# EAGLE library part AVR1-ATTINY12 (library Atmel_AVR8)
MICROCONTROLLER 1 Kbytes FLASH 64 bytes EEPROM
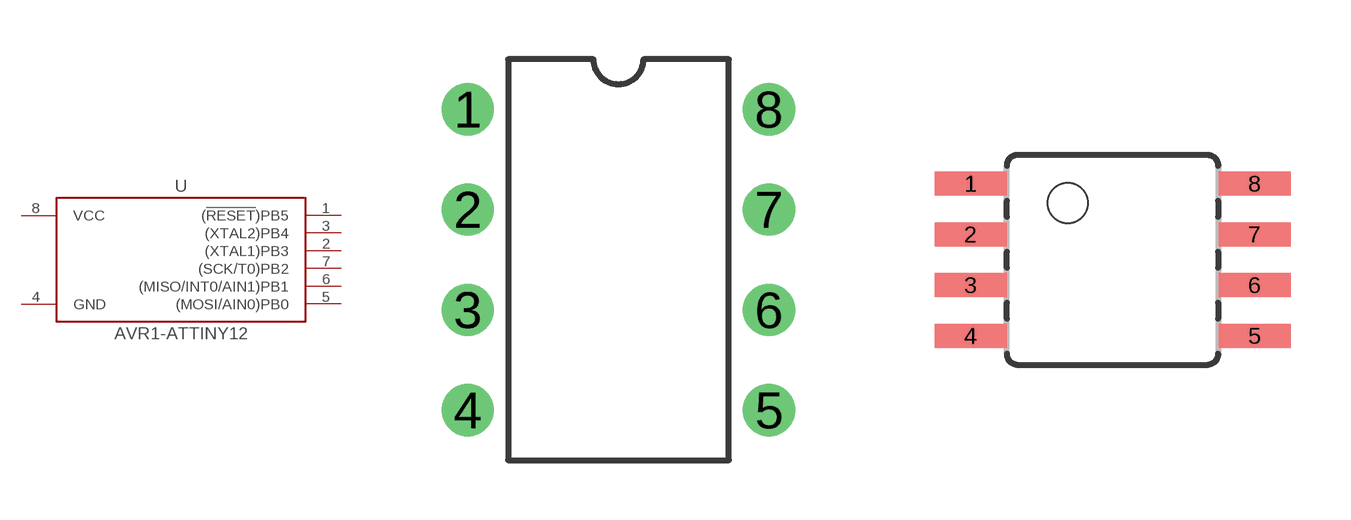
[diagram p14: symbol with the pads of 8P3; footprints 8P3, 8S2]

Designator prefix U

## AVR1-ATTINY12-8P (EEPROM: 64; FLASH: 1024; VOLTAGE: 4.0-5.5), AVR1-ATTINY12L-4P (EEPROM: 64; FLASH: 1024; VOLTAGE: 2.7-5.5), AVR1-ATTINY12V-1P (EEPROM: 64; FLASH: 1024; VOLTAGE: 1.8-5.5)  [8P3]
1  (!RESET!)PB5
2  (XTAL1)PB3
3  (XTAL2)PB4
4  GND  pas
5  (MOSI/AIN0)PB0
6  (MISO/INT0/AIN1)PB1
7  (SCK/T0)PB2
8  VCC  pwr

## AVR1-ATTINY12-8S, AVR1-ATTINY12L-4S, AVR1-ATTINY12V-1S  [8S2]
Pads as for 8P3

## Footprint 8P3 (pad centres in mm)
8-lead, 0.300" Wide Body, Plastic Dual In-line Package (PDIP)
drill 0.813: 1 -3.81,3.81; 2 -3.81,1.27; 3 -3.81,-1.27; 4 -3.81,-3.81; 5 3.81,-3.81; 6 3.81,-1.27; 7 3.81,1.27; 8 3.81,3.81

## Footprint 8S2 (pad centres in mm)
8-lead, 0.208” Body, Plastic Small Outline Package (EIAJ) Atmel PCB Mounting Guidelines for Surface Mount Packages, Page 6 <http://www.atmel.com/images/atmel-8826-seeprom-pcb-mounting-guidelines-surface-mount-packages-applicationnote.pdf#page=6>
smd 1.8 x 0.6: 1 -3.55,1.905; 2 -3.55,0.635; 3 -3.55,-0.635; 4 -3.55,-1.905; 5 3.55,-1.905; 6 3.55,-0.635; 7 3.55,0.635; 8 3.55,1.905